# Altium schematic symbol library BZX84C3V6LT1G.SchLib: 1 symbol
Pins are listed as number, name and electrical type; pins without a type are passive.

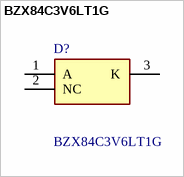
[diagram p0: symbol BZX84C3V6LT1G]

## BZX84C3V6LT1G
designator D?
ON Semiconductor BZX84C3V6LT1G Zener Diode, 3.6V 6% 0.3 W SMT 3-Pin SOT-23; Manufacturer_Name: onsemi; Geometry.Height: 1.11mm; Mouser Part Number: 863-BZX84C3V6LT1G; Mouser Price/Stock: https://www.mouser.co.uk/ProductDetail/onsemi/BZX84C3V6LT1G?qs=vNc2DXHODiJ8rtPiIcmiuA%3D%3D; Manufacturer_Part_Number: BZX84C3V6LT1G; Datasheet Link: http://www.onsemi.com/pub/Collateral/BZX84C2V4LT1-D.PDF
footprint SOT96P237X111-3N
pins: 1 A, 2 NC, 3 K